# Altium schematic symbol library curvetracer.Schlib: 43 symbols
Pins are listed as number, name and electrical type; pins without a type are passive.

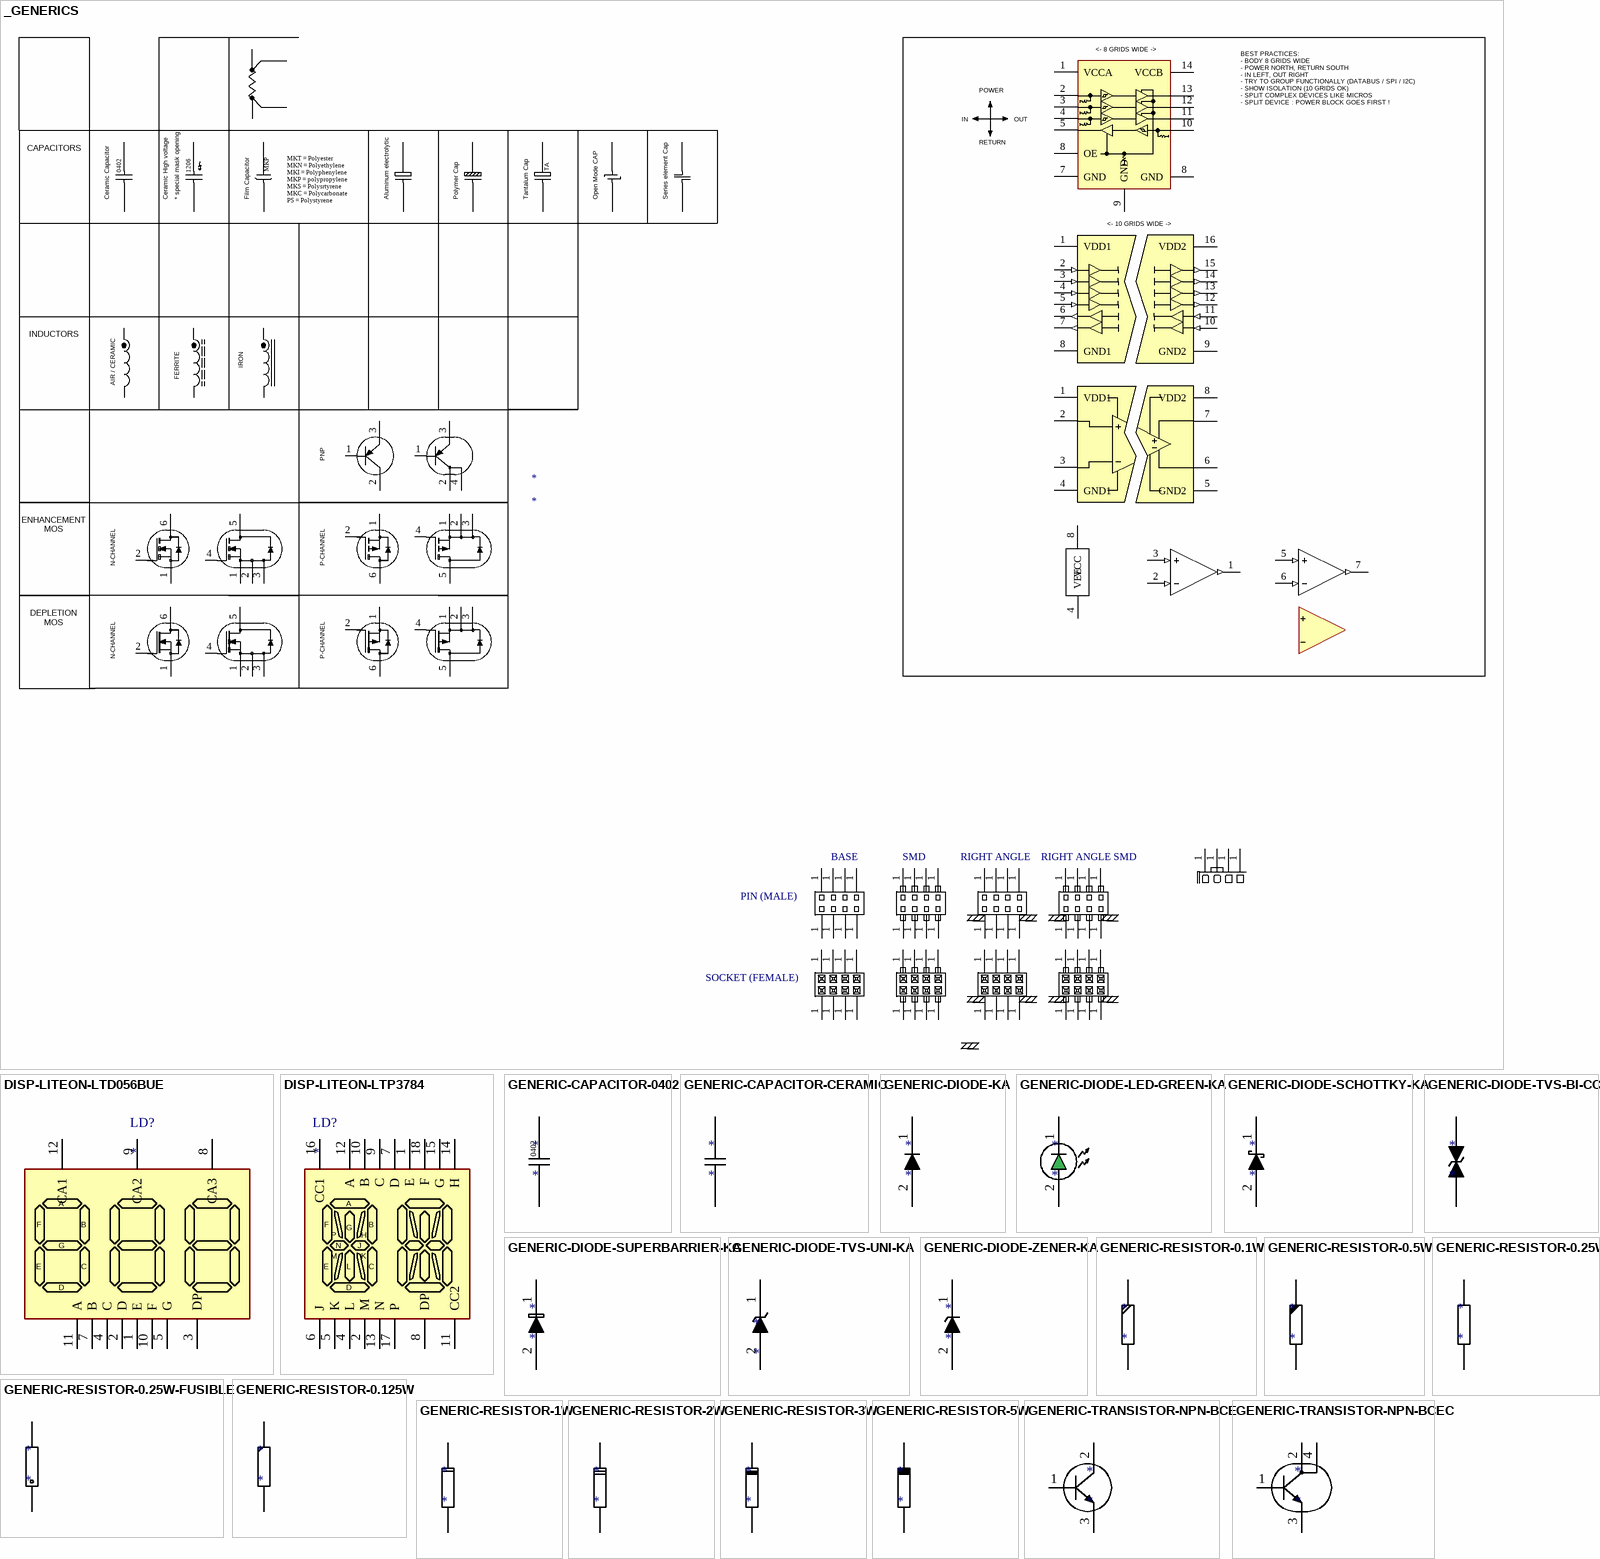
[diagram p0: symbols _GENERICS to GENERIC-TRANSISTOR-NPN-BCEC]

## _GENERICS
designator *
pins: 1 VCCA (power), 1, 1, 1, 1, 1, 1, 1, 1, 1, 1, 1, 1, 1, 1, 1, 1, 1, 1, 1, 1, 1, 1, 1, 1, 1, 1, 1, 1, 1, 1, 1, 1, 1, 1, 1, 1, 1, 1, 1, 1, 1, 1, 1, 1, 1, 1, 1, 1, 1, 1, 1, 1, 1, 1, 1, 1, 1, 1, 1, 1, 1, 1, 1, 1, 1, 1, 1, 1, 1, 1, 1 S, 1 S, 1 B, 1 B, 1 S, 1 S, 1 S, 1 S, 1 S, 1 S, 1, 1, 1, 1, 1, 1, 1, 1, 1 VDD1 (power) "Anode", 1 VDD1 (power) "Anode", 1 (out), 1, 1, 2 A1, 2, 2, 2 S, 2 S, 2 C, 2 C, 2 S, 2 S, 2 S, 2 S, 2 S, 2 S, 2, 2, 2, 2, 2, 2, 2, 2, 2 K (in) "Cathode", 2 K "Cathode", 2 - (in), 2, 2, 3 A2, 3 S, 3 E, 3 E, 3 S, 3 S, 3 S, 3, 3 K (in) "Cathode", 3 GND1 "Cathode", 3 + (in), 4 A3, 4 G1, 4 C, 4 G1, 4 G1, 4 G1, 4, 4 K (in) "Cathode", 4 GND1 (power) "Cathode", 4 VEE (power), 5 A4Y, 5 D, 5 D, 5 D, 5 D, 5 K (in) "Cathode", 5 GND2 (power) "Emitter", 5 (in), 6 D, 6 D, 6 D, 6 D, 6 K (out) "Cathode", 6 NC "Emitter", 6 (in), 7 GND, 7 K (out) "Cathode", 7 Vo "Collector", 7 (out), 8 OE, 8 GND, 8 GND1 (power) "Cathode", 8 VDD2 (power) "Collector", 8 VCC (power), 9 GND, 9 GND2 (power) "Cathode", 10 B4, 10 K (in) "Cathode", 11 B3Y, 11 K (in) "Cathode", 12 B2Y, 12 K (out) "Cathode", 13 B1Y, 13 K (out) "Cathode", 14 VCCB, 14 K (out) "Cathode", 15 K (out) "Cathode", 16 VDD2 (power) "Cathode"
text: <- 8 GRIDS WIDE ->; POWER; BEST PRACTICES: / - BODY 8 GRIDS WIDE / - POWER NORTH, RETURN SOUTH / - IN LEFT, OUT RIGHT / - TRY TO GROUP FUNCTIONALLY (DATABUS / SPI / I2C) / - SHOW ISOLATION (10 GRIDS OK) / - SPLIT COMPLEX DEVICES LIKE MICROS / - SPLIT DEVICE : POWER BLOCK GOES FIRST !; IN; OUT; RETURN; TA; 0402; 1206; MKP; CAPACITORS /; Ceramic Capacitor; Ceramic High voltage; * special mask opening; Film Capacitor; Aluminum electrolytic; Polymer Cap; Tantalum Cap; Open Mode CAP; Series element Cap; MKT = Polyester / MKN = Polyethylene / MKI = Polyphenylene / MKP = polypropylene / MKS = Polysrtyrene / MKC = Polycarbonate / PS = Polystyrene; <- 10 GRIDS WIDE ->; IRON; FERRITE; INDUCTORS; AIR / CERAMIC; PNP; N-CHANNEL; P-CHANNEL; ENHANCEMENT / MOS /; DEPLETION / MOS; BASE; SMD; RIGHT ANGLE; RIGHT ANGLE SMD; PIN (MALE); SOCKET (FEMALE)

## DISP-LITEON-LTD056BUE
designator LD?
pins: 1 E, 2 D, 3 DP, 4 C, 5 G, 7 B, 8 CA3, 9 CA2, 10 F, 11 A, 12 CA1

## DISP-LITEON-LTP3784
designator LD?
pins: 1 E, 2 M, 4 L, 5 K, 6 J, 7 D, 8 DP, 9 C, 10 B, 11 CC2, 12 A, 13 N, 14 H, 15 G, 16 CC1, 17 P, 18 F

## GENERIC-CAPACITOR-0402
designator *
pins: 1, 2
text: 0402

## GENERIC-CAPACITOR-CERAMIC
designator *
pins: 1, 2

## GENERIC-DIODE-KA
designator *
pins: 1 K, 2 A

## GENERIC-DIODE-LED-GREEN-KA
designator *
pins: 1 A, 2 K

## GENERIC-DIODE-SCHOTTKY-KA
designator *
pins: 1 K, 2 A

## GENERIC-DIODE-SUPERBARRIER-KA
designator *
pins: 1 K, 2 A

## GENERIC-DIODE-TVS-BI-CC
designator *
pins: 1 K, 2 A

## GENERIC-DIODE-TVS-UNI-KA
designator *
pins: 1 K, 2 A

## GENERIC-DIODE-ZENER-KA
designator *
pins: 1 K, 2 A

## GENERIC-RESISTOR-0.1W
designator *
pins: 1, 2

## GENERIC-RESISTOR-0.5W
designator *
pins: 1, 2

## GENERIC-RESISTOR-0.25W
designator *
pins: 1, 2

## GENERIC-RESISTOR-0.25W-FUSIBLE
designator *
pins: 1, 2

## GENERIC-RESISTOR-0.125W
designator *
pins: 1, 2

## GENERIC-RESISTOR-1W
designator *
pins: 1, 2

## GENERIC-RESISTOR-2W
designator *
pins: 1, 2

## GENERIC-RESISTOR-3W
designator *
pins: 1, 2

## GENERIC-RESISTOR-5W
designator *
pins: 1, 2

## GENERIC-TRANSISTOR-NPN-BCE
designator *
pins: 1 B, 2 C, 3 E

## GENERIC-TRANSISTOR-NPN-BCEC
designator *
pins: 1 B, 2 C, 3 E, 4 C

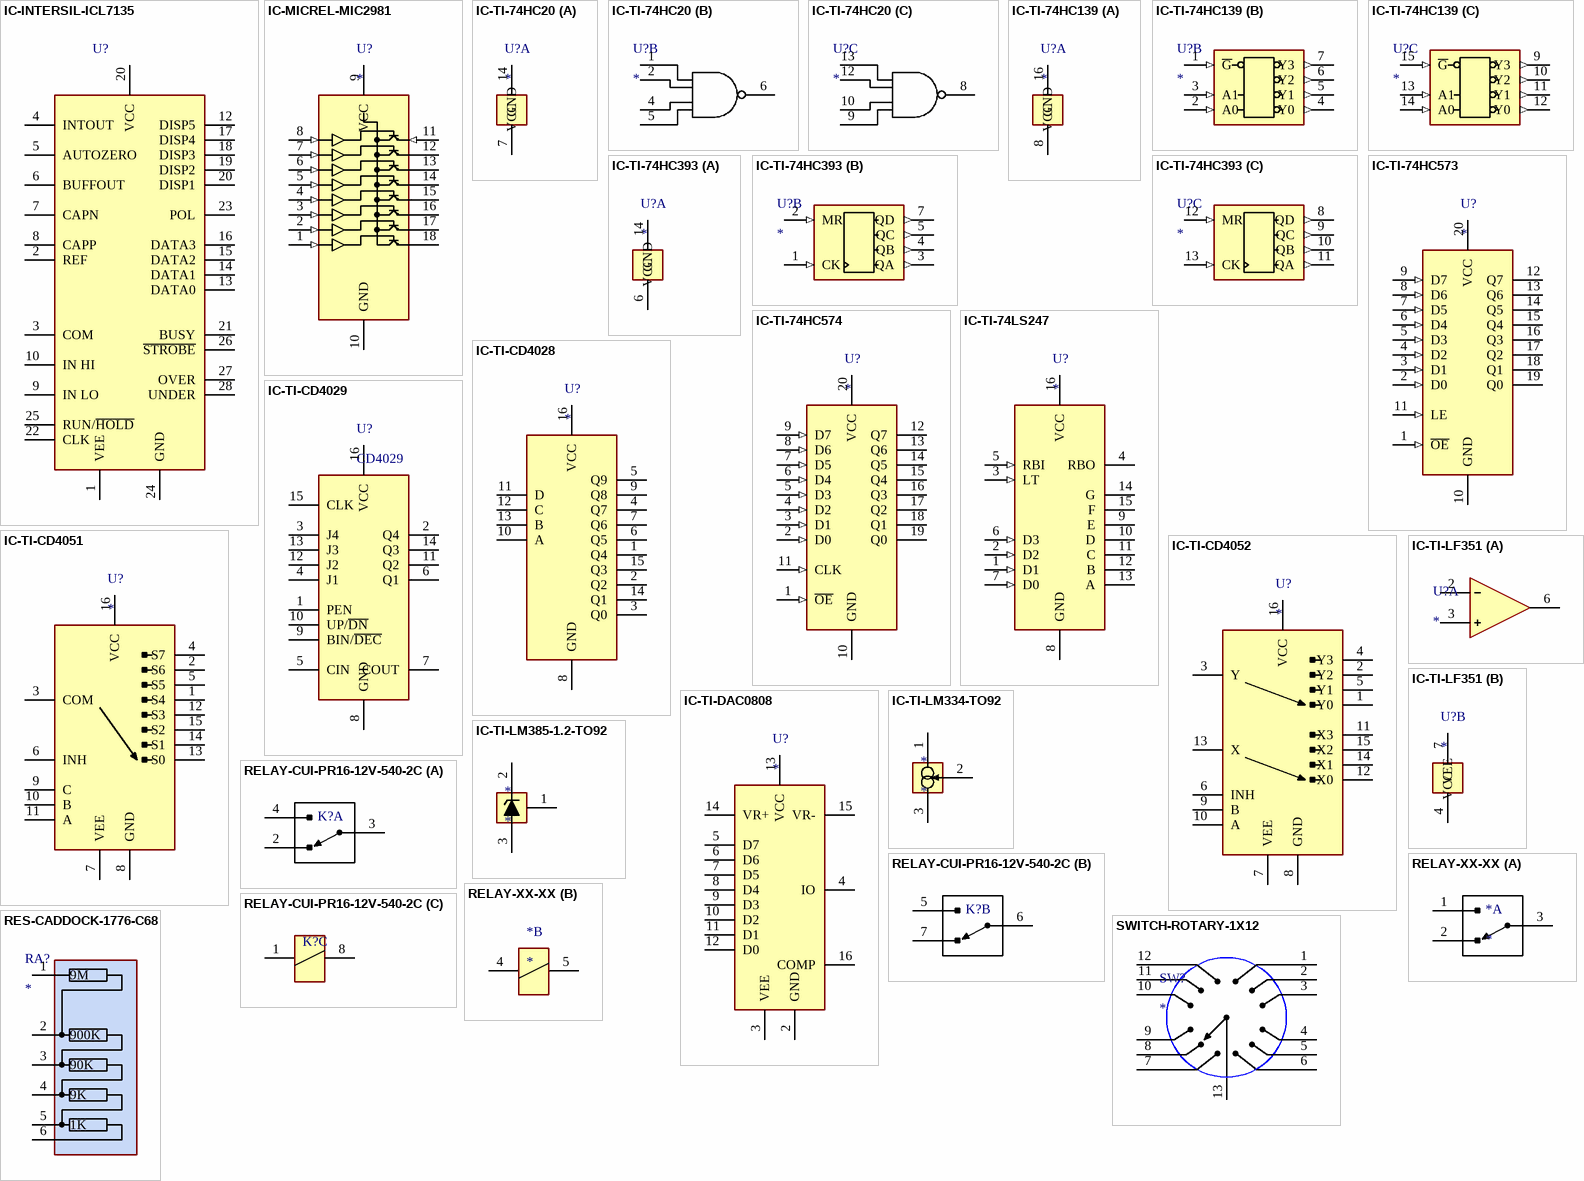
[diagram p1: symbols IC-INTERSIL-ICL7135 to SWITCH-ROTARY-1X12]

## IC-INTERSIL-ICL7135
designator U?
4-1/2 DIGIT DVM
pins: 1 VEE, 2 REF, 3 COM, 4 INTOUT, 5 AUTOZERO, 6 BUFFOUT, 7 CAPN, 8 CAPP, 9 IN LO, 10 IN HI, 12 DISP5, 13 DATA0, 14 DATA1, 15 DATA2, 16 DATA3, 17 DISP4, 18 DISP3, 19 DISP2, 20 VCC, 20 DISP1, 21 BUSY, 22 CLK, 23 POL, 24 GND, 25 RUN/~{HOLD}, 26 ~{STROBE}, 27 OVER, 28 UNDER

## IC-MICREL-MIC2981
designator U?
OCTAL HIGH SIDE DRIVER
pins: 1 ~{OE} (in), 2 D0 (in), 3 D1 (in), 4 D2 (in), 5 D3 (in), 6 D4 (in), 7 D5 (in), 8 D6 (in), 9 VCC, 10 GND, 11 LE (in), 12 Q7 (hiz), 13 Q6 (hiz), 14 Q5 (hiz), 15 Q4 (hiz), 16 Q3 (hiz), 17 Q2 (hiz), 18 Q1 (hiz)

## IC-TI-74HC20
designator U?
DUAL 4-INPUT NAND
part A pins: 7 GND, 14 VCC
part B pins: 1 1A, 2 1B, 4 1C, 5 1D, 6 1Y
part C pins: 8 2Y, 9 2A, 10 2B, 12 2C, 13 2D

## IC-TI-74HC139
designator U?
DUAL 2-TO-4 DECODER
part A pins: 8 GND, 16 VCC
part B pins: 1 ~{G} (in), 2 A0 (in), 3 A1 (in), 4 Y0 (out), 5 Y1 (out), 6 Y2 (out), 7 Y3 (out)
part C pins: 9 Y3 (out), 10 Y2 (out), 11 Y1 (out), 12 Y0 (out), 13 A1 (in), 14 A0 (in), 15 ~{G} (in)

## IC-TI-74HC393
designator U?
DUAL 4 BIT COUNTER
part A pins: 6 GND, 14 VCC
part B pins: 1 CK (in), 2 MR (in), 3 QA (out), 4 QB (out), 5 QC (out), 7 QD (out)
part C pins: 8 QD (out), 9 QC (out), 10 QB (out), 11 QA (out), 12 MR (in), 13 CK (in)

## IC-TI-74HC573
designator U?
OCTAL BUS LATCH
pins: 1 ~{OE} (in), 2 D0 (in), 3 D1 (in), 4 D2 (in), 5 D3 (in), 6 D4 (in), 7 D5 (in), 8 D6 (in), 9 D7 (in), 10 GND, 11 LE (in), 12 Q7 (hiz), 13 Q6 (hiz), 14 Q5 (hiz), 15 Q4 (hiz), 16 Q3 (hiz), 17 Q2 (hiz), 18 Q1 (hiz), 19 Q0 (hiz), 20 VCC

## IC-TI-74HC574
designator U?
OCTAL BUS REGISTER
pins: 1 ~{OE} (in), 2 D0 (in), 3 D1 (in), 4 D2 (in), 5 D3 (in), 6 D4 (in), 7 D5 (in), 8 D6 (in), 9 D7 (in), 10 GND, 11 CLK (in), 12 Q7 (hiz), 13 Q6 (hiz), 14 Q5 (hiz), 15 Q4 (hiz), 16 Q3 (hiz), 17 Q2 (hiz), 18 Q1 (hiz), 19 Q0 (hiz), 20 VCC

## IC-TI-74LS247
designator U?
BCD TO 7-SEGMENT DECODER
pins: 1 D1 (in), 2 D2 (in), 3 LT (in), 4 RBO, 5 RBI (in), 6 D3 (in), 7 D0 (in), 8 GND (power), 9 E, 10 D, 11 C, 12 B, 13 A, 14 G, 15 F, 16 VCC (power)

## IC-TI-CD4028
designator U?
BCD TO DECIMAL DECODER
pins: 1 Q4, 2 Q2, 3 Q0, 4 Q7, 5 Q9, 6 Q5, 7 Q6, 8 GND, 9 Q8, 10 A, 11 D, 12 C, 13 B, 14 Q1, 15 Q3, 16 VCC

## IC-TI-CD4029
designator U?, comment CD4029
PRESETTABLE UP/DOWN BINARY/DECIMAL COUNTER
pins: 1 PEN, 2 Q4, 3 J4, 4 J1, 5 CIN, 6 Q1, 7 COUT, 8 GND, 9 BIN/~{DEC}, 10 UP/~{DN}, 11 Q2, 12 J2, 13 J3, 14 Q3, 15 CLK, 16 VCC

## IC-TI-CD4051
designator U?
8 TO 1 MULTIPLEXER
pins: 1 S4, 2 S6, 3 COM, 4 S7, 5 S5, 6 INH, 7 VEE, 8 GND, 9 C, 10 B, 11 A, 12 S3, 13 S0, 14 S1, 15 S2, 16 VCC

## IC-TI-CD4052
designator U?
DUAL 4 TO 1 MULTIPLEXER
pins: 1 Y0, 2 Y2, 3 Y, 4 Y3, 5 Y1, 6 INH, 7 VEE, 8 GND, 9 B, 10 A, 11 X3, 12 X0, 13 X, 14 X1, 15 X2, 16 VCC

## IC-TI-DAC0808
designator U?
8 BIT DAC
pins: 2 GND, 3 VEE, 4 IO, 5 D7, 6 D6, 7 D5, 8 D4, 9 D3, 10 D2, 11 D1, 12 D0, 13 VCC, 14 VR+, 15 VR-, 16 COMP

## IC-TI-LF351
designator U?
part A pins: 2 -, 3 +, 6 O
part B pins: 4 VEE, 7 VCC

## IC-TI-LM334-TO92
designator *
pins: 1, 2, 3

## IC-TI-LM385-1.2-TO92
designator *
pins: 1, 2, 3

## RELAY-CUI-PR16-12V-540-2C
designator K?  (value not drawn)
part A pins: 2 NC, 3 COM, 4 NO
part B pins: 5 NO, 6 COM, 7 NC
part C pins: 1, 8

## RELAY-XX-XX
designator *
part A pins: 1 NO, 2 NC, 3 COM
part B pins: 4, 5

## RES-CADDOCK-1776-C68
designator RA?
CADDOCK 1776-C68 VOLTAGE DIVIDER
pins: 1 9M, 2 900K, 3 90K, 4 9K, 5 1K, 6 COM

## SWITCH-ROTARY-1X12
designator SW?
pins: 1, 2, 3, 4, 5, 6, 7, 8, 9, 10, 11, 12, 13 C